# Altium schematic symbol library SCH - POWER - LINEAR VREG - TI TPS7A3301_RGW_20.SchLib: 1 symbol
Pins are listed as number, name and electrical type; pins without a type are passive.

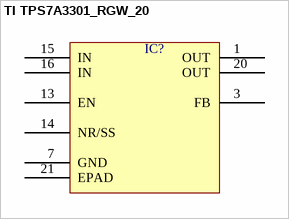
[diagram p0: symbol TI TPS7A3301_RGW_20]

## TI TPS7A3301_RGW_20
designator IC?  (value not drawn)
pins: 1 OUT, 3 FB, 7 GND, 13 EN, 14 NR/SS, 15 IN, 16 IN, 20 OUT, 21 EPAD